# EAGLE library part E22-400M22S (library ebyte-radio)
EBYTE E22400M22S radio module Datasheet and info: http://www.ebyte.com/en/product-view-news.aspx?id=436
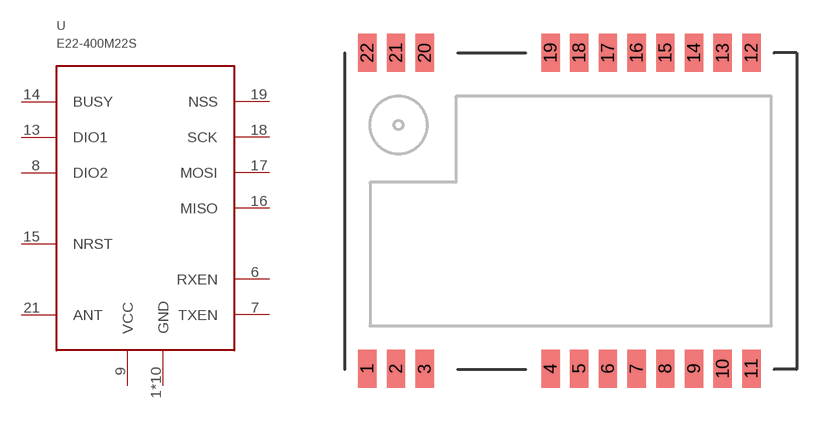
[diagram p0: symbol with the pads of E22-400M22S; footprint E22-400M22S]

Designator prefix -

## E22-400M22S  [E22-400M22S]
1  GND  sup
2  GND  sup
3  GND  sup
4  GND  sup
5  GND  sup
6  RXEN  in
7  TXEN  in
8  DIO2
9  VCC  pwr
10  GND  sup
11  GND  sup
12  GND  sup
13  DIO1
14  BUSY  out
15  NRST  in
16  MISO  out
17  MOSI  in
18  SCK  in
19  NSS  in
20  GND  sup
21  ANT  out
22  GND  sup

## Footprint E22-400M22S (pad centres in mm)
EBYTE E22400M22S radio module Datasheet and info: http://www.ebyte.com/en/product-view-news.aspx?id=436
smd 0.813 x 1.676: 1 -9,-6.97; 2 -7.73,-6.97; 3 -6.46,-6.97; 4 -0.89,-6.97; 5 0.38,-6.97; 6 1.65,-6.97; 7 2.92,-6.97; 8 4.19,-6.97; 9 5.46,-6.97; 10 6.73,-6.97; 11 8,-6.97; 12 8,7; 13 6.73,7; 14 5.46,7; 15 4.19,7; 16 2.92,7; 17 1.65,7; 18 0.38,7; 19 -0.89,7; 20 -6.46,7; 21 -7.73,7; 22 -9,7